# EAGLE library part IS-2235-G (library FaBo-Switch)
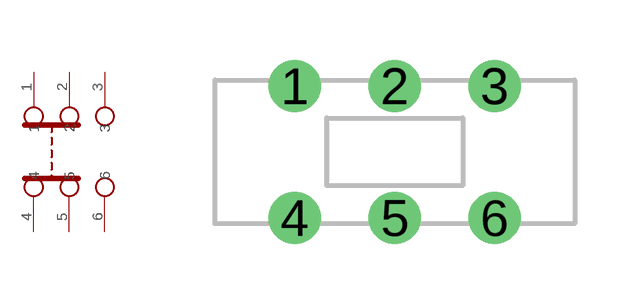
[diagram p10: symbol with the pads of IS-2235-G; footprint IS-2235-G]

Designator prefix -

## IS-2235-G  [IS-2235-G]
1  1
2  2
3  3
4  4
5  5
6  6

## Footprint IS-2235-G (pad centres in mm)
drill 0.8: 1 -2.5,1.65; 2 0,1.65; 3 2.5,1.65; 4 -2.5,-1.65; 5 0,-1.65; 6 2.5,-1.65